# EAGLE library part 1725753 (library 1725753)
Fixed Terminal Blocks 12P 2.54mm 90DEG Source: Datasheet <https://datasheet.datasheetarchive.com/originals/distributors/SFDatasheet-2/sf-00050612.pdf>
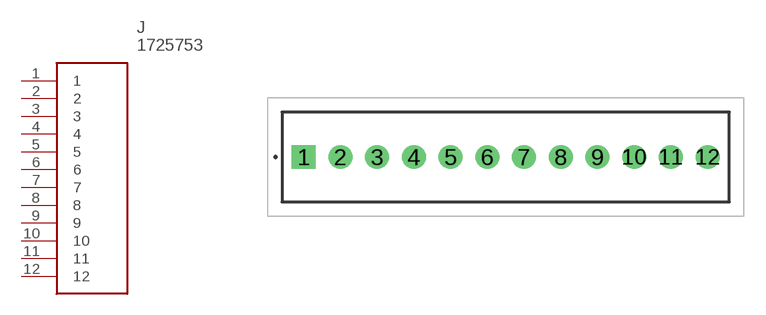
[diagram p0: symbol with the pads of 1725753; footprint 1725753]

Designator prefix J

## 1725753 (Description: Fixed Terminal Blocks 12P 2.54mm 90DEG; Height: 8.65mm; Manufacturer_Name: Phoenix Contact; Manufacturer_Part_Number: 1725753; Mouser_Part_Number: 651-1725753; Mouser_Price-Stock: https://www.mouser.co.uk/ProductDetail/Phoenix-Contact/1725753?qs=W3wJikR1%252BS65YMGoWFXwRA%3D%3D)  [1725753]
1  1
2  2
3  3
4  4
5  5
6  6
7  7
8  8
9  9
10  10
11  11
12  12

## Footprint 1725753 (pad centres in mm)
1725753
drill 1.1 pad 1.65 square: 1 0,0
drill 1.1 pad 1.65: 2 2.54,0; 3 5.08,0; 4 7.62,0; 5 10.16,0; 6 12.7,0; 7 15.24,0; 8 17.78,0; 9 20.32,0; 10 22.86,0; 11 25.4,0; 12 27.94,0